# EAGLE library part AD7799BRUZ (library 0_analog-devices)
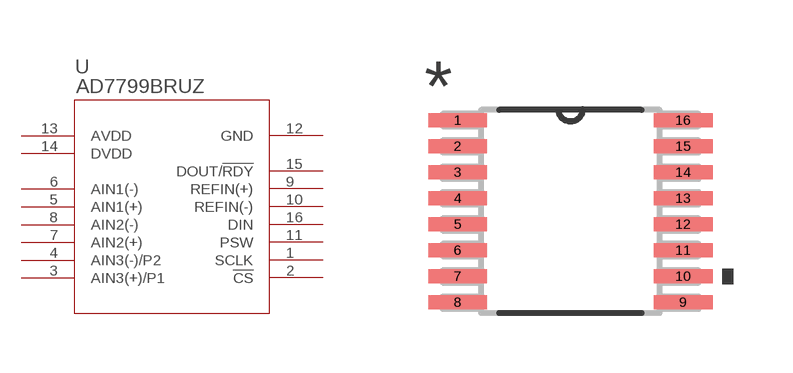
[diagram p0: symbol with the pads of RU_16; footprint RU_16]

Designator prefix U

## AD7799BRUZ  [RU_16]
1  SCLK  pas
2  !CS!  pas
3  AIN3(+)/P1  pas
4  AIN3(-)/P2  pas
5  AIN1(+)  pas
6  AIN1(-)  pas
7  AIN2(+)  pas
8  AIN2(-)  pas
9  REFIN(+)  pas
10  REFIN(-)  pas
11  PSW  pas
12  GND  pas
13  AVDD  pas
14  DVDD  pas
15  DOUT/!RDY!  pas
16  DIN  pas

## Footprint RU_16 (pad centres in mm)
smd 1.473 x 0.356: 1 -2.819,2.275; 2 -2.819,1.625; 3 -2.819,0.975; 4 -2.819,0.325; 5 -2.819,-0.325; 6 -2.819,-0.975; 7 -2.819,-1.625; 8 -2.819,-2.275; 9 2.819,-2.275; 10 2.819,-1.625; 11 2.819,-0.975; 12 2.819,-0.325; 13 2.819,0.325; 14 2.819,0.975; 15 2.819,1.625; 16 2.819,2.275